# Altium schematic symbol library TLV5617.SchLib: 2 symbols
Pins are listed as number, name and electrical type; pins without a type are passive.

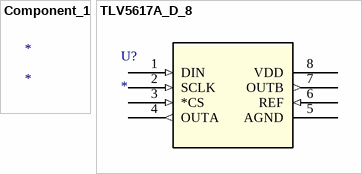
[diagram p0: symbols Component_1 to TLV5617A_D_8]

## Component_1
designator *

## TLV5617A_D_8
designator U?
Imported; Manufacturer_Part_Number: tlv5617a_d_8; GENERIC_PART_NUMBER: TLV5617A; Vendor: Texas Instruments; PACKAGE_DESIGNATOR: D; PIN_COUNT: 8; FAMILY_NAME: PRECISION DAC (=<10MSPS); INDUSTRY_STD_PKG_TYPE: SOIC; Manufacturer: Texas Instruments; Datasheet_URL: http://www.ti.com/lit/gpn/TLV5617A; Value: Value; Type: Type; RefDes: RefDes
footprint D8
pins: 1 DIN (in), 2 SCLK (in), 3 *CS (in), 4 OUTA (out), 5 AGND (power), 6 REF (in), 7 OUTB (out), 8 VDD (power)